# EAGLE library part NRF24-CONNECTOR (library (custom)-connectors-and-modules)
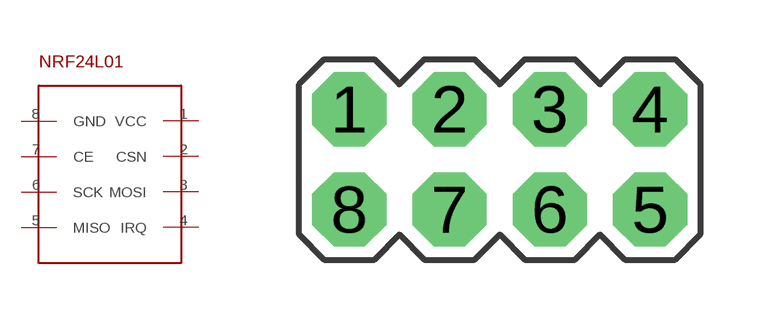
[diagram p5: symbol with the pads of 2X4; footprint 2X4]

Designator prefix NRF24L01

## NRF24-CONNECTOR  [2X4]
1  VCC
2  CSN
3  MOSI
4  IRQ
5  MISO
6  SCK
7  CE
8  GND

## Footprint 2X4 (pad centres in mm)
drill 1.016 pad 1.88 octagon: 1 -3.81,1.27; 2 -1.27,1.27; 3 1.27,1.27; 4 3.81,1.27; 5 3.81,-1.27; 6 1.27,-1.27; 7 -1.27,-1.27; 8 -3.81,-1.27